# Altium schematic symbol library Schlib1.SchLib: 9 symbols
Pins are listed as number, name and electrical type; pins without a type are passive.

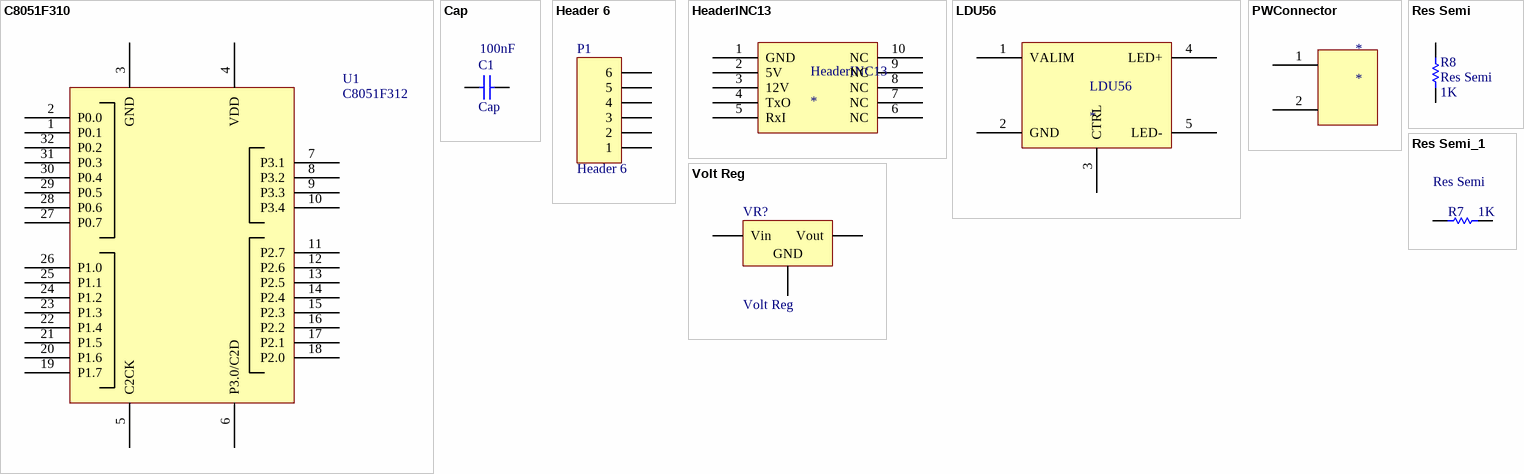
[diagram p0: symbols C8051F310 to Volt Reg]

## C8051F310
designator U1, comment C8051F312
Microcontrôleur Silabs
footprint TQFP80P900X900X160-32N (TQFP, 32-Leads, Body 9,0x9,0mm (max), Pitch 0,80mm, IPC Medium Density)
pins: 1 P0.1, 2 P0.0, 3 GND, 4 VDD, 5 C2CK, 6 P3.0/C2D, 7 P3.1, 8 P3.2, 9 P3.3, 10 P3.4, 11 P2.7, 12 P2.6, 13 P2.5, 14 P2.4, 15 P2.3, 16 P2.2, 17 P2.1, 18 P2.0, 19 P1.7, 20 P1.6, 21 P1.5, 22 P1.4, 23 P1.3, 24 P1.2, 25 P1.1, 26 P1.0, 27 P0.7, 28 P0.6, 29 P0.5, 30 P0.4, 31 P0.3, 32 P0.2

## Cap
designator C1  value 100nF
Capacitor; Published: 8-Jun-2000; LatestRevisionDate: 17-Jul-2002; LatestRevisionNote: Re-released for DXP Platform.; PackageReference: RAD-0.3; Publisher: Altium Limited
footprint RAD-0.3 (Capacitor; 2 Leads)
footprint VP32-3.2 (Capacitor, Ceramic, Thru-Hole, Dipped Radial; Body 5.1 x 3.2 mm (WxT) Pin Spacing 2.54 mm (typ))
footprint VP45-3.2 (Capacitor, Ceramic, Thru-Hole, Dipped Radial; Body 7.8 x 3.2 mm (WxT) Pin Spacing 5.08 mm (typ))
simulation model CAP (Capacitor)
signal-integrity model Cap
footprint C1206
footprint c0805
pins: 1, 2

## Header 6
designator P1
Header, 6-Pin; LatestRevisionDate: 17-Jul-2002; LatestRevisionNote: Re-released for DXP Platform.; Publisher: Altium Limited
footprint HDR1X6 (Connector; Header; 6 Position)
signal-integrity model Connector
footprint Edge Connector 4pts 1mm
pins: 1, 2, 3, 4, 5, 6

## HeaderINC13
designator HeaderINC13
footprint Header10Coude
footprint HEADERACHEVAL
footprint HEADERDroit
pins: 1 GND, 2 5V, 3 12V, 4 TxO, 5 RxI, 6 NC, 7 NC, 8 NC, 9 NC, 10 NC

## LDU56
designator LDU56
footprint LDU56Pin
pins: 1 VALIM, 2 GND, 3 CTRL, 4 LED+, 5 LED-

## PWConnector
designator *
footprint PWConnector
pins: 1, 2

## Res Semi
designator R8  value 1K
Semiconductor Resistor; Published: 8-Jun-2000; LatestRevisionDate: 17-Jul-2002; LatestRevisionNote: Re-released for DXP Platform.; PackageReference: AXIAL-0.5; Publisher: Altium Limited
footprint 1005[0402] (Chip Resistor; Body 1.1 x 0.5 mm (LxW typ))
footprint 1608[0603] (Chip Resistor; Body 1.6 x 0.8 mm (LxW typ))
footprint 2012[0805] (Chip Resistor; Body 2.0 x 1.3 mm (LxW typ))
footprint 3216[1206] (Chip Resistor; Body 3.2 x 1.6 mm (LxW typ))
simulation model RES (Semiconductor Resistor)
signal-integrity model Res Semi
pins: 1, 2

## Res Semi_1
designator R7, comment Res Semi  value 1K
Semiconductor Resistor; Published: 8-Jun-2000; LatestRevisionDate: 17-Jul-2002; LatestRevisionNote: Re-released for DXP Platform.; PackageReference: AXIAL-0.5; Publisher: Altium Limited
footprint 1005[0402] (Chip Resistor; Body 1.1 x 0.5 mm (LxW typ))
footprint 1608[0603] (Chip Resistor; Body 1.6 x 0.8 mm (LxW typ))
footprint 2012[0805] (Chip Resistor; Body 2.0 x 1.3 mm (LxW typ))
footprint 3216[1206] (Chip Resistor; Body 3.2 x 1.6 mm (LxW typ))
simulation model RES (Semiconductor Resistor)
signal-integrity model Res Semi
pins: 1, 2

## Volt Reg
designator VR?
Voltage Regulator; Published: 24-Mar-1999; LatestRevisionDate: 17-Jul-2002; LatestRevisionNote: Re-released for DXP Platform.; PackageReference: D2PAK; Publisher: Altium Limited; Code_JEDEC: SMD-220
footprint D2PAK (D2-PAK/TO-263-AB; 3 Leads (1 Cropped); Body 15.5 (inc. leads) x 10.5 mm (LxW max))
footprint SOT-223-4
pins: 1 Vin, 2 GND, 3 Vout